# Altium schematic symbol library Header_L.SchLib: 1 symbol
Pins are listed as number, name and electrical type; pins without a type are passive.

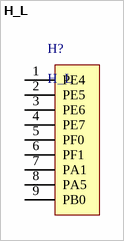
[diagram p0: symbol H_L]

## H_L
designator H?
footprint L
pins: 1 PE4, 2 PE5, 3 PE6, 4 PE7, 5 PF0, 6 PF1, 7 PA1, 8 PA5, 9 PB0